# EAGLE library part GIMBAL_CONN (library rct_ui_board)
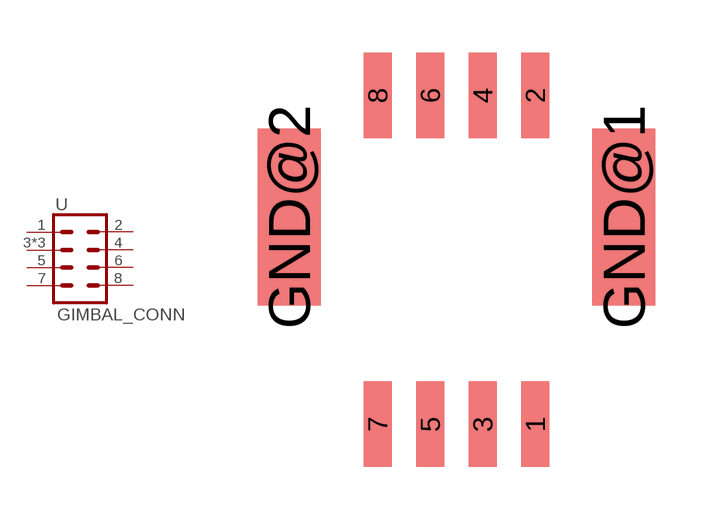
[diagram p4: symbol with the pads of GIMBAL_CONN; footprint GIMBAL_CONN]

Designator prefix -

## GIMBAL_CONN  [GIMBAL_CONN]
1  1
2  2
3  3
4  4
5  5
6  6
7  7
8  8
GND@1  3
GND@2  3

## Footprint GIMBAL_CONN (pad centres in mm)
smd 0.8 x 2.45: 1 2.25,-4.7; 2 2.25,4.7; 3 0.75,-4.7; 4 0.75,4.7; 5 -0.75,-4.7; 6 -0.75,4.7; 7 -2.25,-4.7; 8 -2.25,4.7
smd 1.8 x 5.05: GND@1 4.78,1.225; GND@2 -4.78,1.225